# Altium integrated library WE-CMB NiZn Common Mode Power Line Choke.IntLib: 9 symbols
Pins are listed as number, name and electrical type; pins without a type are passive.

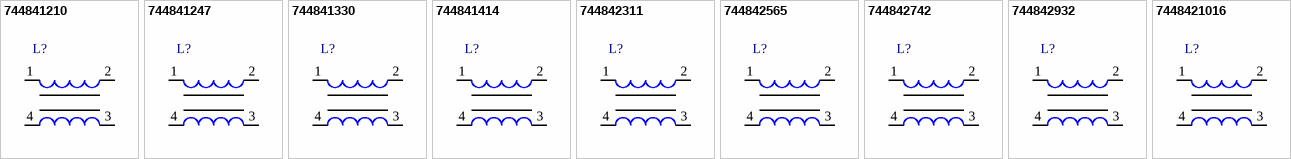
[diagram p0: symbols 744841210 to 7448421016]

## 744841210
designator L?
THT Common Mode Power Line Choke WE-CMB NiZn, L = 100 µH; PartNumber: 744841210; Inductance: 100 µH; DatasheetVersion: ver 1, Dec-2005; PackageReference: WE-CMB-HC-XS; PackageDescription: THT Inductor, 4-Leads, Body 15.5 x 7.5 mm; ComponentLink1Description: Manufacturer URL; ComponentLink1URL: http://www.we-online.com; ComponentLink2Description: Datasheet; ComponentLink2URL: http://www.we-online.de/katalog/media/pdf/744841210.pdf
footprint WE-CMB-HC-XS (THT Inductor, 4-Leads, Body 15.5x7.5x17.5 mm)
pins: 1, 2, 3, 4

## 744841247
designator L?
THT Common Mode Power Line Choke WE-CMB NiZn, L = 47.0 µH; PartNumber: 744841247; Inductance: 47.0 µH; DatasheetVersion: ver 1, Dec-2005; PackageReference: WE-CMB-HC-XS; PackageDescription: THT Inductor, 4-Leads, Body 15.5 x 7.5 mm; ComponentLink1Description: Manufacturer URL; ComponentLink1URL: http://www.we-online.com; ComponentLink2Description: Datasheet; ComponentLink2URL: http://www.we-online.de/katalog/media/pdf/744841247.pdf
footprint WE-CMB-HC-XS (THT Inductor, 4-Leads, Body 15.5x7.5x17.5 mm)
pins: 1, 2, 3, 4

## 744841330
designator L?
THT Common Mode Power Line Choke WE-CMB NiZn, L = 30.0 µH; PartNumber: 744841330; Inductance: 30.0 µH; DatasheetVersion: ver 1, Dec-2005; PackageReference: WE-CMB-HC-XS; PackageDescription: THT Inductor, 4-Leads, Body 15.5 x 7.5 mm; ComponentLink1Description: Manufacturer URL; ComponentLink1URL: http://www.we-online.com; ComponentLink2Description: Datasheet; ComponentLink2URL: http://www.we-online.de/katalog/media/pdf/744841330.pdf
footprint WE-CMB-HC-XS (THT Inductor, 4-Leads, Body 15.5x7.5x17.5 mm)
pins: 1, 2, 3, 4

## 744841414
designator L?
THT Common Mode Power Line Choke WE-CMB NiZn, L = 14.0 µH; PartNumber: 744841414; Inductance: 14.0 µH; DatasheetVersion: ver 1, Dec-2005; PackageReference: WE-CMB-HC-XS; PackageDescription: THT Inductor, 4-Leads, Body 15.5 x 7.5 mm; ComponentLink1Description: Manufacturer URL; ComponentLink1URL: http://www.we-online.com; ComponentLink2Description: Datasheet; ComponentLink2URL: http://www.we-online.de/katalog/media/pdf/744841414.pdf
footprint WE-CMB-HC-XS (THT Inductor, 4-Leads, Body 15.5x7.5x17.5 mm)
pins: 1, 2, 3, 4

## 744842311
designator L?
THT Common Mode Power Line Choke WE-CMB NiZn, L = 110 µH; PartNumber: 744842311; Inductance: 110 µH; DatasheetVersion: Aug-2008; PackageReference: WE-CMB-HC-S-A; PackageDescription: THT Inductor, 4-Leads, Body 18.5 x 14.5 mm; ComponentLink1Description: Manufacturer URL; ComponentLink1URL: http://www.we-online.com; ComponentLink2Description: Datasheet; ComponentLink2URL: http://www.we-online.de/katalog/media/pdf/744842311.pdf
footprint WE-CMB-HC-S-A (THT Inductor, 4-Leads, Body 18.5x14.5x22.0 mm)
pins: 1, 2, 3, 4

## 744842565
designator L?
THT Common Mode Power Line Choke WE-CMB NiZn, L = 65.0 µH; PartNumber: 744842565; Inductance: 65.0 µH; DatasheetVersion: Aug-2008; PackageReference: WE-CMB-HC-S-A; PackageDescription: THT Inductor, 4-Leads, Body 18.5 x 14.5 mm; ComponentLink1Description: Manufacturer URL; ComponentLink1URL: http://www.we-online.com; ComponentLink2Description: Datasheet; ComponentLink2URL: http://www.we-online.de/katalog/media/pdf/744842565.pdf
footprint WE-CMB-HC-S-A (THT Inductor, 4-Leads, Body 18.5x14.5x22.0 mm)
pins: 1, 2, 3, 4

## 744842742
designator L?
THT Common Mode Power Line Choke WE-CMB NiZn, L = 42.0 µH; PartNumber: 744842742; Inductance: 42.0 µH; DatasheetVersion: Aug-2008; PackageReference: WE-CMB-HC-S-A; PackageDescription: THT Inductor, 4-Leads, Body 18.5 x 14.5 mm; ComponentLink1Description: Manufacturer URL; ComponentLink1URL: http://www.we-online.com; ComponentLink2Description: Datasheet; ComponentLink2URL: http://www.we-online.de/katalog/media/pdf/744842742.pdf
footprint WE-CMB-HC-S-A (THT Inductor, 4-Leads, Body 18.5x14.5x22.0 mm)
pins: 1, 2, 3, 4

## 744842932
designator L?
THT Common Mode Power Line Choke WE-CMB NiZn, L = 32.0 µH; PartNumber: 744842932; Inductance: 32.0 µH; DatasheetVersion: Aug-2008; PackageReference: WE-CMB-HC-S-A; PackageDescription: THT Inductor, 4-Leads, Body 18.5 x 14.5 mm; ComponentLink1Description: Manufacturer URL; ComponentLink1URL: http://www.we-online.com; ComponentLink2Description: Datasheet; ComponentLink2URL: http://www.we-online.de/katalog/media/pdf/744842932.pdf
footprint WE-CMB-HC-S-A (THT Inductor, 4-Leads, Body 18.5x14.5x22.0 mm)
pins: 1, 2, 3, 4

## 7448421016
designator L?
THT Common Mode Power Line Choke WE-CMB NiZn, L = 16.0 µH; PartNumber: 7448421016; Inductance: 16.0 µH; DatasheetVersion: Aug-2008; PackageReference: WE-CMB-HC-S-A; PackageDescription: THT Inductor, 4-Leads, Body 18.5 x 14.5 mm; ComponentLink1Description: Manufacturer URL; ComponentLink1URL: http://www.we-online.com; ComponentLink2Description: Datasheet; ComponentLink2URL: http://www.we-online.de/katalog/media/pdf/7448421016.pdf
footprint WE-CMB-HC-S-A (THT Inductor, 4-Leads, Body 18.5x14.5x22.0 mm)
pins: 1, 2, 3, 4